# Altium footprint library Con 050 DSubminiature.PcbLib: 113 footprints (part 5 of 8)
Each footprint in its own frame and in the unit in brackets; x right, y up, seen from the top. Pads: shape width x height; smd on the part's side, far side on the other; paste and mask are expansions set on the pad; w line width, h text height; cw(c..) or ccw(c..) is an arc to the next point about the centre after c.
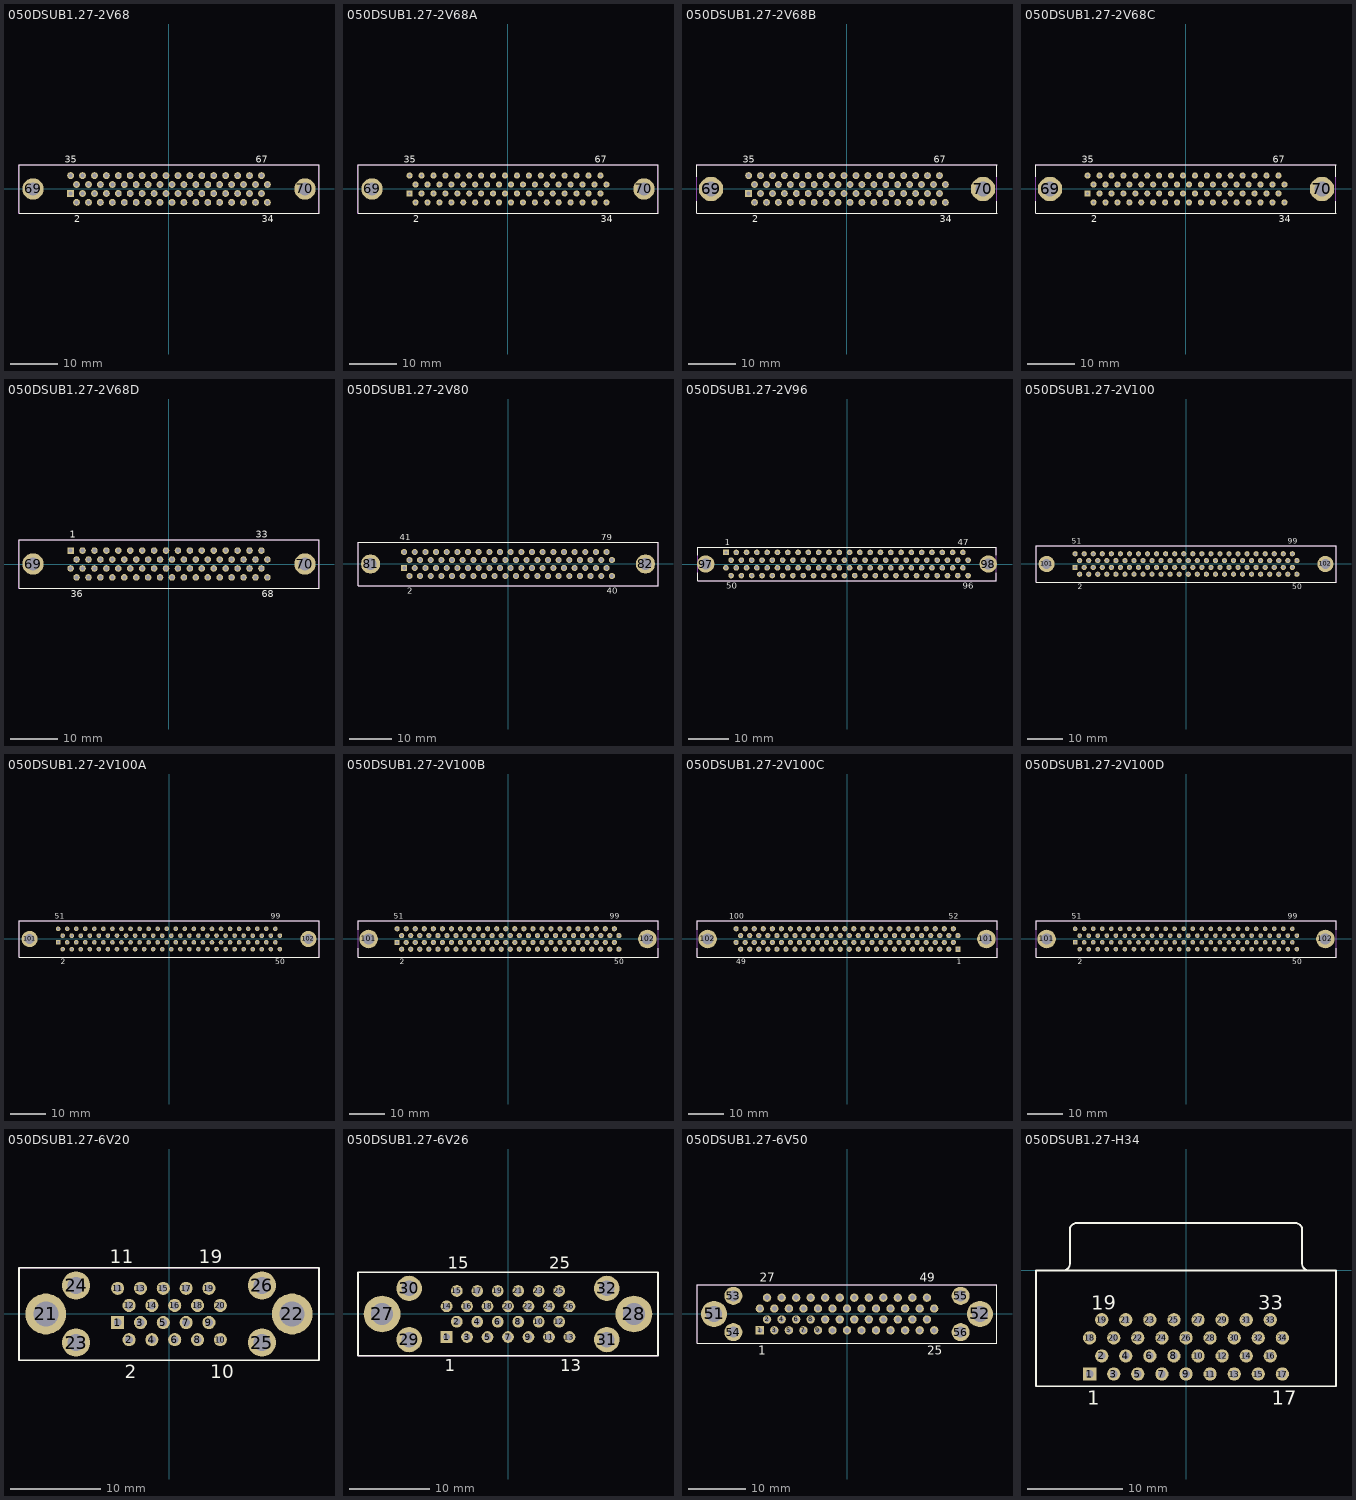
[diagram p4: the footprints below, top view; thin cyan lines are the x and y axes]

## 050DSUB1.27-2V68 [mm] "Connector; D Subminiature 050 Series; 68 Position; Vertical"
height 9.04
pads (70):
  rect 1.46x1.46 hole 0.86: 1(-20.955,-0.953)
  round 1.46 hole 0.86: 2(-19.685,-2.857) 3(-18.415,-0.953) 4(-17.145,-2.857) 5(-15.875,-0.953) 6(-14.605,-2.857) 7(-13.335,-0.953) 8(-12.065,-2.857) 9(-10.795,-0.953) 10(-9.525,-2.857) 11(-8.255,-0.953) 12(-6.985,-2.857) 13(-5.715,-0.953) 14(-4.445,-2.857) 15(-3.175,-0.953) 16(-1.905,-2.857) 17(-0.635,-0.953) 18(0.635,-2.857) 19(1.905,-0.953) 20(3.175,-2.857) 21(4.445,-0.953) 22(5.715,-2.857) 23(6.985,-0.953) 24(8.255,-2.857) 25(9.525,-0.953) 26(10.795,-2.857) 27(12.065,-0.953) 28(13.335,-2.857) 29(14.605,-0.953) 30(15.875,-2.857) 31(17.145,-0.953) 32(18.415,-2.857) 33(19.685,-0.953) 34(20.955,-2.857) 35(-20.955,2.857) 36(-19.685,0.953) 37(-18.415,2.857) 38(-17.145,0.953) 39(-15.875,2.857) 40(-14.605,0.953) 41(-13.335,2.857) 42(-12.065,0.953) 43(-10.795,2.857) 44(-9.525,0.953) 45(-8.255,2.857) 46(-6.985,0.953) 47(-5.715,2.857) 48(-4.445,0.953) 49(-3.175,2.857) 50(-1.905,0.953) 51(-0.635,2.857) 52(0.635,0.953) 53(1.905,2.857) 54(3.175,0.953) 55(4.445,2.857) 56(5.715,0.953) 57(6.985,2.857) 58(8.255,0.953) 59(9.525,2.857) 60(10.795,0.953) 61(12.065,2.857) 62(13.335,0.953) 63(14.605,2.857) 64(15.875,0.953) 65(17.145,2.857) 66(18.415,0.953) 67(19.685,2.857) 68(20.955,0.953)
  round 4.55 hole 2.77: 69(-28.955,0) 70(28.955,0)
Top Overlay:
  lines w0.2: -31.94,-5.155 31.94,-5.155 31.94,5.155 -31.94,5.155 -31.94,-5.155
  text "67" at 18.435,5.63 h1.5
  text "35" at -22.205,5.63 h1.5
  text "34" at 19.705,-7.13 h1.5
  text "2" at -20.185,-7.13 h1.5
Mechanical 13:
  lines w0.1: -31.94,-5.155 -31.94,5.155 31.94,5.155 31.94,-5.155 -31.94,-5.155
3D body: height 9.04, standoff 0, extent -31.94,-5.155 31.94,5.155

## 050DSUB1.27-2V68A [mil] "Connector; D Subminiature 050 Series; 68 Position; Vertical"
height 356.3
pads (70):
  rect 51.22x51.22 hole 27.6: 1(-825,-37.5)
  round 51.22 hole 27.6: 2(-775,-112.5) 3(-725,-37.5) 4(-675,-112.5) 5(-625,-37.5) 6(-575,-112.5) 7(-525,-37.5) 8(-475,-112.5) 9(-425,-37.5) 10(-375,-112.5) 11(-325,-37.5) 12(-275,-112.5) 13(-225,-37.5) 14(-175,-112.5) 15(-125,-37.5) 16(-75,-112.5) 17(-25,-37.5) 18(25,-112.5) 19(75,-37.5) 20(125,-112.5) 21(175,-37.5) 22(225,-112.5) 23(275,-37.5) 24(325,-112.5) 25(375,-37.5) 26(425,-112.5) 27(475,-37.5) 28(525,-112.5) 29(575,-37.5) 30(625,-112.5) 31(675,-37.5) 32(725,-112.5) 33(775,-37.5) 34(825,-112.5) 35(-825,112.5) 36(-775,37.5) 37(-725,112.5) 38(-675,37.5) 39(-625,112.5) 40(-575,37.5) 41(-525,112.5) 42(-475,37.5) 43(-425,112.5) 44(-375,37.5) 45(-325,112.5) 46(-275,37.5) 47(-225,112.5) 48(-175,37.5) 49(-125,112.5) 50(-75,37.5) 51(-25,112.5) 52(25,37.5) 53(75,112.5) 54(125,37.5) 55(175,112.5) 56(225,37.5) 57(275,112.5) 58(325,37.5) 59(375,112.5) 60(425,37.5) 61(475,112.5) 62(525,37.5) 63(575,112.5) 64(625,37.5) 65(675,112.5) 66(725,37.5) 67(775,112.5) 68(825,37.5)
  round 179.13 hole 109.06: 69(-1139.96,0) 70(1139.96,0)
Top Overlay:
  lines w7.87: -1257.48,-202.95 -1257.48,202.95 1257.48,202.95 1257.48,-202.95 -1257.48,-202.95
  text "2" at -794.68,-280.71 h59.06
  text "34" at 775.79,-280.71 h59.06
  text "35" at -874.21,221.65 h59.06
  text "67" at 725.79,221.65 h59.06
Mechanical 13:
  lines w3.94: -1257.48,-202.95 -1257.48,202.95 1257.48,202.95 1257.48,-202.95 -1257.48,-202.95
3D body: height 356.3, standoff 0, extent -1257.48,-202.95 1257.48,202.95

## 050DSUB1.27-2V68B [mm] "Connector; D Subminiature 050 Series; 68 Position; Vertical"
height 8.83
pads (70):
  rect 1.46x1.46 hole 0.86: 1(-20.955,-0.953)
  round 1.46 hole 0.86: 2(-19.685,-2.857) 3(-18.415,-0.953) 4(-17.145,-2.857) 5(-15.875,-0.953) 6(-14.605,-2.857) 7(-13.335,-0.953) 8(-12.065,-2.857) 9(-10.795,-0.953) 10(-9.525,-2.857) 11(-8.255,-0.953) 12(-6.985,-2.857) 13(-5.715,-0.953) 14(-4.445,-2.857) 15(-3.175,-0.953) 16(-1.905,-2.857) 17(-0.635,-0.953) 18(0.635,-2.857) 19(1.905,-0.953) 20(3.175,-2.857) 21(4.445,-0.953) 22(5.715,-2.857) 23(6.985,-0.953) 24(8.255,-2.857) 25(9.525,-0.953) 26(10.795,-2.857) 27(12.065,-0.953) 28(13.335,-2.857) 29(14.605,-0.953) 30(15.875,-2.857) 31(17.145,-0.953) 32(18.415,-2.857) 33(19.685,-0.953) 34(20.955,-2.857) 35(-20.955,2.857) 36(-19.685,0.953) 37(-18.415,2.857) 38(-17.145,0.953) 39(-15.875,2.857) 40(-14.605,0.953) 41(-13.335,2.857) 42(-12.065,0.953) 43(-10.795,2.857) 44(-9.525,0.953) 45(-8.255,2.857) 46(-6.985,0.953) 47(-5.715,2.857) 48(-4.445,0.953) 49(-3.175,2.857) 50(-1.905,0.953) 51(-0.635,2.857) 52(0.635,0.953) 53(1.905,2.857) 54(3.175,0.953) 55(4.445,2.857) 56(5.715,0.953) 57(6.985,2.857) 58(8.255,0.953) 59(9.525,2.857) 60(10.795,0.953) 61(12.065,2.857) 62(13.335,0.953) 63(14.605,2.857) 64(15.875,0.953) 65(17.145,2.857) 66(18.415,0.953) 67(19.685,2.857) 68(20.955,0.953)
  round 5.2 hole 3.18: 69(-28.955,0) 70(28.955,0)
Top Overlay:
  lines w0.2: -31.94,-2.592 -31.94,-5.155 31.94,-5.155 31.94,-2.592 ; -31.94,2.592 -31.94,5.155 31.94,5.155 31.94,2.592
  text "67" at 18.435,5.63 h1.5
  text "35" at -22.205,5.63 h1.5
  text "34" at 19.705,-7.13 h1.5
  text "2" at -20.185,-7.13 h1.5
Mechanical 13:
  lines w0.1: -31.94,-5.155 -31.94,5.155 31.94,5.155 31.94,-5.155 -31.94,-5.155
3D body: height 8.83, standoff 0, extent -31.94,-5.155 31.94,5.155

## 050DSUB1.27-2V68C [mil] "Connector; D Subminiature 050 Series; 68 Position; Vertical"
height 348.03
pads (70):
  rect 51.22x51.22 hole 27.6: 1(-825,-37.5)
  round 51.22 hole 27.6: 2(-775,-112.5) 3(-725,-37.5) 4(-675,-112.5) 5(-625,-37.5) 6(-575,-112.5) 7(-525,-37.5) 8(-475,-112.5) 9(-425,-37.5) 10(-375,-112.5) 11(-325,-37.5) 12(-275,-112.5) 13(-225,-37.5) 14(-175,-112.5) 15(-125,-37.5) 16(-75,-112.5) 17(-25,-37.5) 18(25,-112.5) 19(75,-37.5) 20(125,-112.5) 21(175,-37.5) 22(225,-112.5) 23(275,-37.5) 24(325,-112.5) 25(375,-37.5) 26(425,-112.5) 27(475,-37.5) 28(525,-112.5) 29(575,-37.5) 30(625,-112.5) 31(675,-37.5) 32(725,-112.5) 33(775,-37.5) 34(825,-112.5) 35(-825,112.5) 36(-775,37.5) 37(-725,112.5) 38(-675,37.5) 39(-625,112.5) 40(-575,37.5) 41(-525,112.5) 42(-475,37.5) 43(-425,112.5) 44(-375,37.5) 45(-325,112.5) 46(-275,37.5) 47(-225,112.5) 48(-175,37.5) 49(-125,112.5) 50(-75,37.5) 51(-25,112.5) 52(25,37.5) 53(75,112.5) 54(125,37.5) 55(175,112.5) 56(225,37.5) 57(275,112.5) 58(325,37.5) 59(375,112.5) 60(425,37.5) 61(475,112.5) 62(525,37.5) 63(575,112.5) 64(625,37.5) 65(675,112.5) 66(725,37.5) 67(775,112.5) 68(825,37.5)
  round 204.72 hole 125.2: 69(-1139.96,0) 70(1139.96,0)
Top Overlay:
  lines w7.87: -1257.48,-102.06 -1257.48,-202.95 1257.48,-202.95 1257.48,-102.06 ; -1257.48,102.06 -1257.48,202.95 1257.48,202.95 1257.48,102.06
  text "2" at -794.68,-280.71 h59.06
  text "34" at 775.79,-280.71 h59.06
  text "35" at -874.21,221.65 h59.06
  text "67" at 725.79,221.65 h59.06
Mechanical 13:
  lines w3.94: -1257.48,-202.95 -1257.48,202.95 1257.48,202.95 1257.48,-202.95 -1257.48,-202.95
3D body: height 348.03, standoff 0, extent -1257.48,-202.95 1257.48,202.95

## 050DSUB1.27-2V68D [mm] "Connector; D Subminiature 050 Series; 68 Position; Vertical"
height 9.5
pads (70):
  rect 1.4x1.4 hole 0.8: 1(-20.955,2.857)
  round 1.4 hole 0.8: 2(-19.685,0.953) 3(-18.415,2.857) 4(-17.145,0.953) 5(-15.875,2.857) 6(-14.605,0.953) 7(-13.335,2.857) 8(-12.065,0.953) 9(-10.795,2.857) 10(-9.525,0.953) 11(-8.255,2.857) 12(-6.985,0.953) 13(-5.715,2.857) 14(-4.445,0.953) 15(-3.175,2.857) 16(-1.905,0.953) 17(-0.635,2.857) 18(0.635,0.953) 19(1.905,2.857) 20(3.175,0.953) 21(4.445,2.857) 22(5.715,0.953) 23(6.985,2.857) 24(8.255,0.953) 25(9.525,2.857) 26(10.795,0.953) 27(12.065,2.857) 28(13.335,0.953) 29(14.605,2.857) 30(15.875,0.953) 31(17.145,2.857) 32(18.415,0.953) 33(19.685,2.857) 34(20.955,0.953) 35(-20.955,-0.953) 36(-19.685,-2.857) 37(-18.415,-0.953) 38(-17.145,-2.857) 39(-15.875,-0.953) 40(-14.605,-2.857) 41(-13.335,-0.953) 42(-12.065,-2.857) 43(-10.795,-0.953) 44(-9.525,-2.857) 45(-8.255,-0.953) 46(-6.985,-2.857) 47(-5.715,-0.953) 48(-4.445,-2.857) 49(-3.175,-0.953) 50(-1.905,-2.857) 51(-0.635,-0.953) 52(0.635,-2.857) 53(1.905,-0.953) 54(3.175,-2.857) 55(4.445,-0.953) 56(5.715,-2.857) 57(6.985,-0.953) 58(8.255,-2.857) 59(9.525,-0.953) 60(10.795,-2.857) 61(12.065,-0.953) 62(13.335,-2.857) 63(14.605,-0.953) 64(15.875,-2.857) 65(17.145,-0.953) 66(18.415,-2.857) 67(19.685,-0.953) 68(20.955,-2.857)
  round 4.55 hole 2.77: 69(-28.955,0) 70(28.955,0)
Top Overlay:
  lines w0.2: -31.94,-5.155 -31.94,5.155 31.94,5.155 31.94,-5.155 -31.94,-5.155
  text "36" at -20.935,-7.13 h1.5
  text "68" at 19.705,-7.13 h1.5
  text "1" at -21.154,5.63 h1.5
  text "33" at 18.435,5.63 h1.5
Mechanical 13:
  lines w0.1: -31.94,-5.155 -31.94,5.155 31.94,5.155 31.94,-5.155 -31.94,-5.155
3D body: height 9.5, standoff 0, extent -31.94,-5.155 31.94,5.155

## 050DSUB1.27-2V80 [mm] "Connector; D Subminiature 050 Series; 80 Position; Vertical"
height 9.04
pads (82):
  rect 1.46x1.46 hole 0.86: 1(-24.765,-0.953)
  round 1.46 hole 0.86: 2(-23.495,-2.857) 3(-22.225,-0.953) 4(-20.955,-2.857) 5(-19.685,-0.953) 6(-18.415,-2.857) 7(-17.145,-0.953) 8(-15.875,-2.857) 9(-14.605,-0.953) 10(-13.335,-2.857) 11(-12.065,-0.953) 12(-10.795,-2.857) 13(-9.525,-0.953) 14(-8.255,-2.857) 15(-6.985,-0.953) 16(-5.715,-2.857) 17(-4.445,-0.953) 18(-3.175,-2.857) 19(-1.905,-0.953) 20(-0.635,-2.857) 21(0.635,-0.953) 22(1.905,-2.857) 23(3.175,-0.953) 24(4.445,-2.857) 25(5.715,-0.953) 26(6.985,-2.857) 27(8.255,-0.953) 28(9.525,-2.857) 29(10.795,-0.953) 30(12.065,-2.857) 31(13.335,-0.953) 32(14.605,-2.857) 33(15.875,-0.953) 34(17.145,-2.857) 35(18.415,-0.953) 36(19.685,-2.857) 37(20.955,-0.953) 38(22.225,-2.857) 39(23.495,-0.953) 40(24.765,-2.857) 41(-24.765,2.857) 42(-23.495,0.953) 43(-22.225,2.857) 44(-20.955,0.953) 45(-19.685,2.857) 46(-18.415,0.953) 47(-17.145,2.857) 48(-15.875,0.953) 49(-14.605,2.857) 50(-13.335,0.953) 51(-12.065,2.857) 52(-10.795,0.953) 53(-9.525,2.857) 54(-8.255,0.953) 55(-6.985,2.857) 56(-5.715,0.953) 57(-4.445,2.857) 58(-3.175,0.953) 59(-1.905,2.857) 60(-0.635,0.953) 61(0.635,2.857) 62(1.905,0.953) 63(3.175,2.857) 64(4.445,0.953) 65(5.715,2.857) 66(6.985,0.953) 67(8.255,2.857) 68(9.525,0.953) 69(10.795,2.857) 70(12.065,0.953) 71(13.335,2.857) 72(14.605,0.953) 73(15.875,2.857) 74(17.145,0.953) 75(18.415,2.857) 76(19.685,0.953) 77(20.955,2.857) 78(22.225,0.953) 79(23.495,2.857) 80(24.765,0.953)
  round 4.55 hole 2.77: 81(-32.765,0) 82(32.765,0)
Top Overlay:
  lines w0.2: -35.75,-5.155 -35.75,5.155 35.75,5.155 35.75,-5.155 -35.75,-5.155
  text "2" at -23.995,-7.13 h1.5
  text "41" at -25.765,5.63 h1.5
  text "40" at 23.515,-7.13 h1.5
  text "79" at 22.245,5.63 h1.5
Mechanical 13:
  lines w0.1: -35.75,-5.155 -35.75,5.155 35.75,5.155 35.75,-5.155 -35.75,-5.155
3D body: height 9.04, standoff 0, extent -35.75,-5.155 35.75,5.155

## 050DSUB1.27-2V96 [mm] "Connector; D Subminiature 050 Series; 96 Position; Vertical"
height 9.3
pads (98):
  rect 1.4x1.4 hole 0.8: 1(-29.845,2.857)
  round 1.4 hole 0.8: 2(-28.575,0.953) 3(-27.305,2.857) 4(-26.035,0.953) 5(-24.765,2.857) 6(-23.495,0.953) 7(-22.225,2.857) 8(-20.955,0.953) 9(-19.685,2.857) 10(-18.415,0.953) 11(-17.145,2.857) 12(-15.875,0.953) 13(-14.605,2.857) 14(-13.335,0.953) 15(-12.065,2.857) 16(-10.795,0.953) 17(-9.525,2.857) 18(-8.255,0.953) 19(-6.985,2.857) 20(-5.715,0.953) 21(-4.445,2.857) 22(-3.175,0.953) 23(-1.905,2.857) 24(-0.635,0.953) 25(0.635,2.857) 26(1.905,0.953) 27(3.175,2.857) 28(4.445,0.953) 29(5.715,2.857) 30(6.985,0.953) 31(8.255,2.857) 32(9.525,0.953) 33(10.795,2.857) 34(12.065,0.953) 35(13.335,2.857) 36(14.605,0.953) 37(15.875,2.857) 38(17.145,0.953) 39(18.415,2.857) 40(19.685,0.953) 41(20.955,2.857) 42(22.225,0.953) 43(23.495,2.857) 44(24.765,0.953) 45(26.035,2.857) 46(27.305,0.953) 47(28.575,2.857) 48(29.845,0.953) 49(-29.845,-0.953) 50(-28.575,-2.857) 51(-27.305,-0.953) 52(-26.035,-2.857) 53(-24.765,-0.953) 54(-23.495,-2.857) 55(-22.225,-0.953) 56(-20.955,-2.857) 57(-19.685,-0.953) 58(-18.415,-2.857) 59(-17.145,-0.953) 60(-15.875,-2.857) 61(-14.605,-0.953) 62(-13.335,-2.857) 63(-12.065,-0.953) 64(-10.795,-2.857) 65(-9.525,-0.953) 66(-8.255,-2.857) 67(-6.985,-0.953) 68(-5.715,-2.857) 69(-4.445,-0.953) 70(-3.175,-2.857) 71(-1.905,-0.953) 72(-0.635,-2.857) 73(0.635,-0.953) 74(1.905,-2.857) 75(3.175,-0.953) 76(4.445,-2.857) 77(5.715,-0.953) 78(6.985,-2.857) 79(8.255,-0.953) 80(9.525,-2.857) 81(10.795,-0.953) 82(12.065,-2.857) 83(13.335,-0.953) 84(14.605,-2.857) 85(15.875,-0.953) 86(17.145,-2.857) 87(18.415,-0.953) 88(19.685,-2.857) 89(20.955,-0.953) 90(22.225,-2.857) 91(23.495,-0.953) 92(24.765,-2.857) 93(26.035,-0.953) 94(27.305,-2.857) 95(28.575,-0.953) 96(29.845,-2.857)
  round 4.3 hole 2.6: 97(-34.83,0) 98(34.83,0)
Top Overlay:
  lines w0.2: -36.83,-2.146 -36.83,-4.157 36.83,-4.157 36.83,-2.146 ; -36.83,2.146 -36.83,4.157 36.83,4.157 36.83,2.146
  text "1" at -30.095,4.633 h1.5
  text "47" at 27.325,4.633 h1.5
  text "96" at 28.595,-6.132 h1.5
  text "50" at -29.825,-6.132 h1.5
Mechanical 13:
  lines w0.1: -36.83,-4.157 -36.83,4.157 36.83,4.157 36.83,-4.157 -36.83,-4.157
3D body: height 9.3, standoff 0, extent -36.83,-4.157 36.83,4.157

## 050DSUB1.27-2V100 [mm] "Connector; D Subminiature 050 Series; 100 Position; Vertical"
height 9.04
pads (102):
  rect 1.46x1.46 hole 0.86: 1(-31.115,-0.953)
  round 1.46 hole 0.86: 2(-29.845,-2.857) 3(-28.575,-0.953) 4(-27.305,-2.857) 5(-26.035,-0.953) 6(-24.765,-2.857) 7(-23.495,-0.953) 8(-22.225,-2.857) 9(-20.955,-0.953) 10(-19.685,-2.857) 11(-18.415,-0.953) 12(-17.145,-2.857) 13(-15.875,-0.953) 14(-14.605,-2.857) 15(-13.335,-0.953) 16(-12.065,-2.857) 17(-10.795,-0.953) 18(-9.525,-2.857) 19(-8.255,-0.953) 20(-6.985,-2.857) 21(-5.715,-0.953) 22(-4.445,-2.857) 23(-3.175,-0.953) 24(-1.905,-2.857) 25(-0.635,-0.953) 26(0.635,-2.857) 27(1.905,-0.953) 28(3.175,-2.857) 29(4.445,-0.953) 30(5.715,-2.857) 31(6.985,-0.953) 32(8.255,-2.857) 33(9.525,-0.953) 34(10.795,-2.857) 35(12.065,-0.953) 36(13.335,-2.857) 37(14.605,-0.953) 38(15.875,-2.857) 39(17.145,-0.953) 40(18.415,-2.857) 41(19.685,-0.953) 42(20.955,-2.857) 43(22.225,-0.953) 44(23.495,-2.857) 45(24.765,-0.953) 46(26.035,-2.857) 47(27.305,-0.953) 48(28.575,-2.857) 49(29.845,-0.953) 50(31.115,-2.857) 51(-31.115,2.857) 52(-29.845,0.953) 53(-28.575,2.857) 54(-27.305,0.953) 55(-26.035,2.857) 56(-24.765,0.953) 57(-23.495,2.857) 58(-22.225,0.953) 59(-20.955,2.857) 60(-19.685,0.953) 61(-18.415,2.857) 62(-17.145,0.953) 63(-15.875,2.857) 64(-14.605,0.953) 65(-13.335,2.857) 66(-12.065,0.953) 67(-10.795,2.857) 68(-9.525,0.953) 69(-8.255,2.857) 70(-6.985,0.953) 71(-5.715,2.857) 72(-4.445,0.953) 73(-3.175,2.857) 74(-1.905,0.953) 75(-0.635,2.857) 76(0.635,0.953) 77(1.905,2.857) 78(3.175,0.953) 79(4.445,2.857) 80(5.715,0.953) 81(6.985,2.857) 82(8.255,0.953) 83(9.525,2.857) 84(10.795,0.953) 85(12.065,2.857) 86(13.335,0.953) 87(14.605,2.857) 88(15.875,0.953) 89(17.145,2.857) 90(18.415,0.953) 91(19.685,2.857) 92(20.955,0.953) 93(22.225,2.857) 94(23.495,0.953) 95(24.765,2.857) 96(26.035,0.953) 97(27.305,2.857) 98(28.575,0.953) 99(29.845,2.857) 100(31.115,0.953)
  round 4.55 hole 2.77: 101(-39.115,0) 102(39.115,0)
Top Overlay:
  lines w0.2: -42.1,-5.155 42.1,-5.155 42.1,5.155 -42.1,5.155 -42.1,-5.155
  text "99" at 28.595,5.63 h1.5
  text "2" at -30.345,-7.13 h1.5
  text "51" at -32.115,5.63 h1.5
  text "50" at 29.865,-7.13 h1.5
Mechanical 13:
  lines w0.1: -42.1,-5.155 -42.1,5.155 42.1,5.155 42.1,-5.155 -42.1,-5.155
3D body: height 9.04, standoff 0, extent -42.1,-5.155 42.1,5.155

## 050DSUB1.27-2V100A [mil] "Connector; D Subminiature 050 Series; 100 Position; Vertical"
height 356.3
pads (102):
  rect 51.22x51.22 hole 27.6: 1(-1225,-37.5)
  round 51.22 hole 27.6: 2(-1175,-112.5) 3(-1125,-37.5) 4(-1075,-112.5) 5(-1025,-37.5) 6(-975,-112.5) 7(-925,-37.5) 8(-875,-112.5) 9(-825,-37.5) 10(-775,-112.5) 11(-725,-37.5) 12(-675,-112.5) 13(-625,-37.5) 14(-575,-112.5) 15(-525,-37.5) 16(-475,-112.5) 17(-425,-37.5) 18(-375,-112.5) 19(-325,-37.5) 20(-275,-112.5) 21(-225,-37.5) 22(-175,-112.5) 23(-125,-37.5) 24(-75,-112.5) 25(-25,-37.5) 26(25,-112.5) 27(75,-37.5) 28(125,-112.5) 29(175,-37.5) 30(225,-112.5) 31(275,-37.5) 32(325,-112.5) 33(375,-37.5) 34(425,-112.5) 35(475,-37.5) 36(525,-112.5) 37(575,-37.5) 38(625,-112.5) 39(675,-37.5) 40(725,-112.5) 41(775,-37.5) 42(825,-112.5) 43(875,-37.5) 44(925,-112.5) 45(975,-37.5) 46(1025,-112.5) 47(1075,-37.5) 48(1125,-112.5) 49(1175,-37.5) 50(1225,-112.5) 51(-1225,112.5) 52(-1175,37.5) 53(-1125,112.5) 54(-1075,37.5) 55(-1025,112.5) 56(-975,37.5) 57(-925,112.5) 58(-875,37.5) 59(-825,112.5) 60(-775,37.5) 61(-725,112.5) 62(-675,37.5) 63(-625,112.5) 64(-575,37.5) 65(-525,112.5) 66(-475,37.5) 67(-425,112.5) 68(-375,37.5) 69(-325,112.5) 70(-275,37.5) 71(-225,112.5) 72(-175,37.5) 73(-125,112.5) 74(-75,37.5) 75(-25,112.5) 76(25,37.5) 77(75,112.5) 78(125,37.5) 79(175,112.5) 80(225,37.5) 81(275,112.5) 82(325,37.5) 83(375,112.5) 84(425,37.5) 85(475,112.5) 86(525,37.5) 87(575,112.5) 88(625,37.5) 89(675,112.5) 90(725,37.5) 91(775,112.5) 92(825,37.5) 93(875,112.5) 94(925,37.5) 95(975,112.5) 96(1025,37.5) 97(1075,112.5) 98(1125,37.5) 99(1175,112.5) 100(1225,37.5)
  round 179.13 hole 109.06: 101(-1539.96,0) 102(1539.96,0)
Top Overlay:
  lines w7.87: -1657.48,-202.95 1657.48,-202.95 1657.48,202.95 -1657.48,202.95 -1657.48,-202.95
  text "99" at 1125.79,221.65 h59.06
  text "2" at -1194.68,-280.71 h59.06
  text "51" at -1264.37,221.65 h59.06
  text "50" at 1175.79,-280.71 h59.06
Mechanical 13:
  lines w3.94: -1657.48,-202.95 -1657.48,202.95 1657.48,202.95 1657.48,-202.95 -1657.48,-202.95
3D body: height 356.3, standoff 0, extent -1657.48,-202.95 1657.48,202.95

## 050DSUB1.27-2V100B [mm] "Connector; D Subminiature 050 Series; 100 Position; Vertical"
height 8.83
pads (102):
  rect 1.46x1.46 hole 0.86: 1(-31.115,-0.953)
  round 1.46 hole 0.86: 2(-29.845,-2.857) 3(-28.575,-0.953) 4(-27.305,-2.857) 5(-26.035,-0.953) 6(-24.765,-2.857) 7(-23.495,-0.953) 8(-22.225,-2.857) 9(-20.955,-0.953) 10(-19.685,-2.857) 11(-18.415,-0.953) 12(-17.145,-2.857) 13(-15.875,-0.953) 14(-14.605,-2.857) 15(-13.335,-0.953) 16(-12.065,-2.857) 17(-10.795,-0.953) 18(-9.525,-2.857) 19(-8.255,-0.953) 20(-6.985,-2.857) 21(-5.715,-0.953) 22(-4.445,-2.857) 23(-3.175,-0.953) 24(-1.905,-2.857) 25(-0.635,-0.953) 26(0.635,-2.857) 27(1.905,-0.953) 28(3.175,-2.857) 29(4.445,-0.953) 30(5.715,-2.857) 31(6.985,-0.953) 32(8.255,-2.857) 33(9.525,-0.953) 34(10.795,-2.857) 35(12.065,-0.953) 36(13.335,-2.857) 37(14.605,-0.953) 38(15.875,-2.857) 39(17.145,-0.953) 40(18.415,-2.857) 41(19.685,-0.953) 42(20.955,-2.857) 43(22.225,-0.953) 44(23.495,-2.857) 45(24.765,-0.953) 46(26.035,-2.857) 47(27.305,-0.953) 48(28.575,-2.857) 49(29.845,-0.953) 50(31.115,-2.857) 51(-31.115,2.857) 52(-29.845,0.953) 53(-28.575,2.857) 54(-27.305,0.953) 55(-26.035,2.857) 56(-24.765,0.953) 57(-23.495,2.857) 58(-22.225,0.953) 59(-20.955,2.857) 60(-19.685,0.953) 61(-18.415,2.857) 62(-17.145,0.953) 63(-15.875,2.857) 64(-14.605,0.953) 65(-13.335,2.857) 66(-12.065,0.953) 67(-10.795,2.857) 68(-9.525,0.953) 69(-8.255,2.857) 70(-6.985,0.953) 71(-5.715,2.857) 72(-4.445,0.953) 73(-3.175,2.857) 74(-1.905,0.953) 75(-0.635,2.857) 76(0.635,0.953) 77(1.905,2.857) 78(3.175,0.953) 79(4.445,2.857) 80(5.715,0.953) 81(6.985,2.857) 82(8.255,0.953) 83(9.525,2.857) 84(10.795,0.953) 85(12.065,2.857) 86(13.335,0.953) 87(14.605,2.857) 88(15.875,0.953) 89(17.145,2.857) 90(18.415,0.953) 91(19.685,2.857) 92(20.955,0.953) 93(22.225,2.857) 94(23.495,0.953) 95(24.765,2.857) 96(26.035,0.953) 97(27.305,2.857) 98(28.575,0.953) 99(29.845,2.857) 100(31.115,0.953)
  round 5.2 hole 3.18: 101(-39.115,0) 102(39.115,0)
Top Overlay:
  lines w0.2: -42.1,-2.592 -42.1,-5.155 42.1,-5.155 42.1,-2.592 ; -42.1,2.592 -42.1,5.155 42.1,5.155 42.1,2.592
  text "99" at 28.595,5.63 h1.5
  text "2" at -30.345,-7.13 h1.5
  text "51" at -32.115,5.63 h1.5
  text "50" at 29.865,-7.13 h1.5
Mechanical 13:
  lines w0.1: -42.1,-5.155 -42.1,5.155 42.1,5.155 42.1,-5.155 -42.1,-5.155
3D body: height 8.83, standoff 0, extent -42.1,-5.155 42.1,5.155

## 050DSUB1.27-2V100C [mm] "Connector; D Subminiature 050 Series; 100 Position; Vertical"
height 9.7
pads (102):
  rect 1.46x1.46 hole 0.86: 1(31.115,-2.857)
  round 1.46 hole 0.86: 2(29.845,-0.953) 3(28.575,-2.857) 4(27.305,-0.953) 5(26.035,-2.857) 6(24.765,-0.953) 7(23.495,-2.857) 8(22.225,-0.953) 9(20.955,-2.857) 10(19.685,-0.953) 11(18.415,-2.857) 12(17.145,-0.953) 13(15.875,-2.857) 14(14.605,-0.953) 15(13.335,-2.857) 16(12.065,-0.953) 17(10.795,-2.857) 18(9.525,-0.953) 19(8.255,-2.857) 20(6.985,-0.953) 21(5.715,-2.857) 22(4.445,-0.953) 23(3.175,-2.857) 24(1.905,-0.953) 25(0.635,-2.857) 26(-0.635,-0.953) 27(-1.905,-2.857) 28(-3.175,-0.953) 29(-4.445,-2.857) 30(-5.715,-0.953) 31(-6.985,-2.857) 32(-8.255,-0.953) 33(-9.525,-2.857) 34(-10.795,-0.953) 35(-12.065,-2.857) 36(-13.335,-0.953) 37(-14.605,-2.857) 38(-15.875,-0.953) 39(-17.145,-2.857) 40(-18.415,-0.953) 41(-19.685,-2.857) 42(-20.955,-0.953) 43(-22.225,-2.857) 44(-23.495,-0.953) 45(-24.765,-2.857) 46(-26.035,-0.953) 47(-27.305,-2.857) 48(-28.575,-0.953) 49(-29.845,-2.857) 50(-31.115,-0.953) 51(31.115,0.953) 52(29.845,2.857) 53(28.575,0.953) 54(27.305,2.857) 55(26.035,0.953) 56(24.765,2.857) 57(23.495,0.953) 58(22.225,2.857) 59(20.955,0.953) 60(19.685,2.857) 61(18.415,0.953) 62(17.145,2.857) 63(15.875,0.953) 64(14.605,2.857) 65(13.335,0.953) 66(12.065,2.857) 67(10.795,0.953) 68(9.525,2.857) 69(8.255,0.953) 70(6.985,2.857) 71(5.715,0.953) 72(4.445,2.857) 73(3.175,0.953) 74(1.905,2.857) 75(0.635,0.953) 76(-0.635,2.857) 77(-1.905,0.953) 78(-3.175,2.857) 79(-4.445,0.953) 80(-5.715,2.857) 81(-6.985,0.953) 82(-8.255,2.857) 83(-9.525,0.953) 84(-10.795,2.857) 85(-12.065,0.953) 86(-13.335,2.857) 87(-14.605,0.953) 88(-15.875,2.857) 89(-17.145,0.953) 90(-18.415,2.857) 91(-19.685,0.953) 92(-20.955,2.857) 93(-22.225,0.953) 94(-23.495,2.857) 95(-24.765,0.953) 96(-26.035,2.857) 97(-27.305,0.953) 98(-28.575,2.857) 99(-29.845,0.953) 100(-31.115,2.857)
  round 5.2 hole 3.18: 101(39.115,0) 102(-39.115,0)
Top Overlay:
  lines w0.2: -42.1,-2.592 -42.1,-5.155 42.1,-5.155 42.1,-2.592 ; -42.1,2.592 -42.1,5.155 42.1,5.155 42.1,2.592
  text "100" at -32.99,5.63 h1.5
  text "1" at 30.865,-7.13 h1.5
  text "52" at 28.595,5.63 h1.5
  text "49" at -31.095,-7.13 h1.5
Mechanical 13:
  lines w0.1: -42.1,-5.155 42.1,-5.155 42.1,5.155 -42.1,5.155 -42.1,-5.155
3D body: height 9.7, standoff 0, extent -42.1,-5.155 42.1,5.155

## 050DSUB1.27-2V100D [mil] "Connector; D Subminiature 050 Series; 100 Position; Vertical"
height 348.03
pads (102):
  rect 51.22x51.22 hole 27.6: 1(-1225,-37.5)
  round 51.22 hole 27.6: 2(-1175,-112.5) 3(-1125,-37.5) 4(-1075,-112.5) 5(-1025,-37.5) 6(-975,-112.5) 7(-925,-37.5) 8(-875,-112.5) 9(-825,-37.5) 10(-775,-112.5) 11(-725,-37.5) 12(-675,-112.5) 13(-625,-37.5) 14(-575,-112.5) 15(-525,-37.5) 16(-475,-112.5) 17(-425,-37.5) 18(-375,-112.5) 19(-325,-37.5) 20(-275,-112.5) 21(-225,-37.5) 22(-175,-112.5) 23(-125,-37.5) 24(-75,-112.5) 25(-25,-37.5) 26(25,-112.5) 27(75,-37.5) 28(125,-112.5) 29(175,-37.5) 30(225,-112.5) 31(275,-37.5) 32(325,-112.5) 33(375,-37.5) 34(425,-112.5) 35(475,-37.5) 36(525,-112.5) 37(575,-37.5) 38(625,-112.5) 39(675,-37.5) 40(725,-112.5) 41(775,-37.5) 42(825,-112.5) 43(875,-37.5) 44(925,-112.5) 45(975,-37.5) 46(1025,-112.5) 47(1075,-37.5) 48(1125,-112.5) 49(1175,-37.5) 50(1225,-112.5) 51(-1225,112.5) 52(-1175,37.5) 53(-1125,112.5) 54(-1075,37.5) 55(-1025,112.5) 56(-975,37.5) 57(-925,112.5) 58(-875,37.5) 59(-825,112.5) 60(-775,37.5) 61(-725,112.5) 62(-675,37.5) 63(-625,112.5) 64(-575,37.5) 65(-525,112.5) 66(-475,37.5) 67(-425,112.5) 68(-375,37.5) 69(-325,112.5) 70(-275,37.5) 71(-225,112.5) 72(-175,37.5) 73(-125,112.5) 74(-75,37.5) 75(-25,112.5) 76(25,37.5) 77(75,112.5) 78(125,37.5) 79(175,112.5) 80(225,37.5) 81(275,112.5) 82(325,37.5) 83(375,112.5) 84(425,37.5) 85(475,112.5) 86(525,37.5) 87(575,112.5) 88(625,37.5) 89(675,112.5) 90(725,37.5) 91(775,112.5) 92(825,37.5) 93(875,112.5) 94(925,37.5) 95(975,112.5) 96(1025,37.5) 97(1075,112.5) 98(1125,37.5) 99(1175,112.5) 100(1225,37.5)
  round 204.72 hole 125.2: 101(-1539.96,0) 102(1539.96,0)
Top Overlay:
  lines w7.87: -1657.48,-102.06 -1657.48,-202.95 1657.48,-202.95 1657.48,-102.06 ; -1657.48,102.06 -1657.48,202.95 1657.48,202.95 1657.48,102.06
  text "99" at 1125.79,221.65 h59.06
  text "2" at -1194.68,-280.71 h59.06
  text "51" at -1264.37,221.65 h59.06
  text "50" at 1175.79,-280.71 h59.06
Mechanical 13:
  lines w3.94: -1657.48,-202.95 1657.48,-202.95 1657.48,202.95 -1657.48,202.95 -1657.48,-202.95
3D body: height 348.03, standoff 0, extent -1657.48,-202.95 1657.48,202.95

## 050DSUB1.27-6V20 [mm] "Connector; D Subminiature 050 Series; 20 Position; Vertical"
height 9.05
pads (26):
  rect 1.46x1.46 hole 0.86: 1(-5.715,-0.953)
  round 1.46 hole 0.86: 2(-4.445,-2.857) 3(-3.175,-0.953) 4(-1.905,-2.857) 5(-0.635,-0.953) 6(0.635,-2.857) 7(1.905,-0.953) 8(3.175,-2.857) 9(4.445,-0.953) 10(5.715,-2.857) 11(-5.715,2.857) 12(-4.445,0.953) 13(-3.175,2.857) 14(-1.905,0.953) 15(-0.635,2.857) 16(0.635,0.953) 17(1.905,2.857) 18(3.175,0.953) 19(4.445,2.857) 20(5.715,0.953)
  round 4.55 hole 2.77: 21(-13.715,0) 22(13.715,0)
  round 3.15 hole 1.9: 23(-10.35,-3.175) 24(-10.35,3.175) 25(10.35,-3.175) 26(10.35,3.175)
Top Overlay:
  lines w0.2: -16.7,-5.155 16.7,-5.155 16.7,5.155 -16.7,5.155 -16.7,-5.155
  text "19" at 3.32,5.63 h1.5
  text "11" at -6.59,5.63 h1.5
  text "10" at 4.59,-7.13 h1.5
  text "2" at -4.945,-7.13 h1.5
Mechanical 13:
  lines w0.1: -16.7,-5.155 16.7,-5.155 16.7,5.155 -16.7,5.155 -16.7,-5.155
3D body: height 9.05, standoff 0, extent -16.7,-5.155 16.7,5.155

## 050DSUB1.27-6V26 [mm] "Connector; D Subminiature 050 Series; 26 Position; Vertical"
height 9.05
pads (32):
  rect 1.46x1.46 hole 0.86: 1(-7.62,-2.857)
  round 1.46 hole 0.86: 2(-6.35,-0.953) 3(-5.08,-2.857) 4(-3.81,-0.953) 5(-2.54,-2.857) 6(-1.27,-0.953) 7(0,-2.857) 8(1.27,-0.953) 9(2.54,-2.857) 10(3.81,-0.953) 11(5.08,-2.857) 12(6.35,-0.953) 13(7.62,-2.857) 14(-7.62,0.953) 15(-6.35,2.857) 16(-5.08,0.953) 17(-3.81,2.857) 18(-2.54,0.953) 19(-1.27,2.857) 20(0,0.953) 21(1.27,2.857) 22(2.54,0.953) 23(3.81,2.857) 24(5.08,0.953) 25(6.35,2.857) 26(7.62,0.953)
  round 4.55 hole 2.77: 27(-15.62,0) 28(15.62,0)
  round 3.15 hole 1.9: 29(-12.255,-3.175) 30(-12.255,3.175) 31(12.255,-3.175) 32(12.255,3.175)
Top Overlay:
  lines w0.2: -18.605,-5.155 18.605,-5.155 18.605,5.155 -18.605,5.155 -18.605,-5.155
  text "25" at 5.1,5.63 h1.5
  text "15" at -7.475,5.63 h1.5
  text "13" at 6.495,-7.13 h1.5
  text "1" at -7.87,-7.13 h1.5
Mechanical 13:
  lines w0.1: -18.605,-5.155 18.605,-5.155 18.605,5.155 -18.605,5.155 -18.605,-5.155
3D body: height 9.05, standoff 0, extent -18.605,-5.155 18.605,5.155

## 050DSUB1.27-6V50 [mm] "Connector; D Subminiature 050 Series; 50 Position; Vertical"
height 8.24
pads (56):
  rect 1.46x1.46 hole 0.86: 1(-15.24,-2.857)
  round 1.46 hole 0.86: 2(-13.97,-0.953) 3(-12.7,-2.857) 4(-11.43,-0.953) 5(-10.16,-2.857) 6(-8.89,-0.953) 7(-7.62,-2.857) 8(-6.35,-0.953) 9(-5.08,-2.857) 10(-3.81,-0.953) 11(-2.54,-2.857) 12(-1.27,-0.953) 13(0,-2.857) 14(1.27,-0.953) 15(2.54,-2.857) 16(3.81,-0.953) 17(5.08,-2.857) 18(6.35,-0.953) 19(7.62,-2.857) 20(8.89,-0.953) 21(10.16,-2.857) 22(11.43,-0.953) 23(12.7,-2.857) 24(13.97,-0.953) 25(15.24,-2.857) 26(-15.24,0.953) 27(-13.97,2.857) 28(-12.7,0.953) 29(-11.43,2.857) 30(-10.16,0.953) 31(-8.89,2.857) 32(-7.62,0.953) 33(-6.35,2.857) 34(-5.08,0.953) 35(-3.81,2.857) 36(-2.54,0.953) 37(-1.27,2.857) 38(0,0.953) 39(1.27,2.857) 40(2.54,0.953) 41(3.81,2.857) 42(5.08,0.953) 43(6.35,2.857) 44(7.62,0.953) 45(8.89,2.857) 46(10.16,0.953) 47(11.43,2.857) 48(12.7,0.953) 49(13.97,2.857) 50(15.24,0.953)
  round 4.55 hole 2.77: 51(-23.24,0) 52(23.24,0)
  round 3.15 hole 1.9: 53(-19.875,3.175) 54(-19.875,-3.175) 55(19.875,3.175) 56(19.875,-3.175)
Top Overlay:
  lines w0.2: -26.225,-5.155 -26.225,5.155 26.225,5.155 26.225,-5.155 -26.225,-5.155
  text "27" at -15.22,5.63 h1.5
  text "49" at 12.72,5.63 h1.5
  text "25" at 13.99,-7.13 h1.5
  text "1" at -15.49,-7.13 h1.5
Mechanical 13:
  lines w0.1: -26.225,-5.155 -26.225,5.155 26.225,5.155 26.225,-5.155 -26.225,-5.155
3D body: height 8.24, standoff 0, extent -26.225,-5.155 26.225,5.155

## 050DSUB1.27-H34 [mm] "Connector; D Subminiature 050 Series; 34 Position; Right Angle"
height 7.5
pads (34):
  rect 1.4x1.4 hole 0.8: 1(-10.16,-10.915)
  round 1.4 hole 0.8: 2(-8.89,-9.01) 3(-7.62,-10.915) 4(-6.35,-9.01) 5(-5.08,-10.915) 6(-3.81,-9.01) 7(-2.54,-10.915) 8(-1.27,-9.01) 9(0,-10.915) 10(1.27,-9.01) 11(2.54,-10.915) 12(3.81,-9.01) 13(5.08,-10.915) 14(6.35,-9.01) 15(7.62,-10.915) 16(8.89,-9.01) 17(10.16,-10.915) 18(-10.16,-7.105) 19(-8.89,-5.2) 20(-7.62,-7.105) 21(-6.35,-5.2) 22(-5.08,-7.105) 23(-3.81,-5.2) 24(-2.54,-7.105) 25(-1.27,-5.2) 26(0,-7.105) 27(1.27,-5.2) 28(2.54,-7.105) 29(3.81,-5.2) 30(5.08,-7.105) 31(6.35,-5.2) 32(7.62,-7.105) 33(8.89,-5.2) 34(10.16,-7.105)
Top Overlay:
  lines w0.2: -12.94,0.005 ccw(c-12.94,0.7) -12.245,0.7 -12.245,4.3 cw(c-11.55,4.3) -11.55,4.995 ; -11.55,5 11.55,5 cw(c11.55,4.305) 12.245,4.305 12.245,0.705 ccw(c12.94,0.705) 12.94,0.01 ; -15.815,-12.2 -15.815,0 15.815,0 15.815,-12.2 -15.815,-12.2
  text "19" at -10.015,-4.125 h1.5
  text "33" at 7.64,-4.125 h1.5
  text "17" at 9.035,-14.175 h1.5
  text "1" at -10.41,-14.175 h1.5
Mechanical 13:
  lines w0.1: -15.815,-12.2 15.815,-12.2 15.815,0 -15.815,0 -15.815,-12.2
3D body: height 7.5, standoff 0, extent -15.814,-12.199 15.814,-0.001